# EAGLE library part SN74AVCAH164245 (library m-pad-2.1)
Ti's SN74AVCAH164245 16-BIT DUAL-SUPPLY BUS TRANSCEIVER WITH CONFIGURABLE VOLTAGE TRANSLATION AND 3-STATE OUTPUTS Description: This 16-bit (dual-octal) noninverting bus transceiver uses two separate configurable power-supply rails. The A-port is designed to track VCCA. VCCA accepts any supply voltage from 1.4 V to 3.6 V. The B-port is designed to track VCCB. VCCB accepts any supply voltage from 1.4 V to 3.6 V. This allows for universal low-voltage bidirectional translation between any of the 1.5-V, 1.8-V, 2.5-V, and 3.3-V voltage nodes. The SN74AVCAH164245 is designed for asynchronous communication between data buses. The device transmits data from the A bus to the B bus or from the B bus to the A bus, depending on the logic level at the direction-control (DIR) input. The output-enable (OE) input can be used to disable the outputs so the buses are effectively isolated. The SN74AVCAH164245 is designed so that the control pins (1DIR, 2DIR, 1OE, and 2OE) are supplied by VCCA. Active bus-hold circuitry is provided to hold unused or floating data inputs at a valid logic level. Use of pullup or pulldown resistors with the bus-hold circuitry is not recommended. To ensure the high-impedance state during power up or power down, OE should be tied to VCCA through a pullup resistor; the minimum value of the resistor is determined by the current-sinking capability of the driver. This device is fully specified for partial-power-down applications using Ioff. The Ioff circuitry disables the outputs, preventing damaging current backflow through the device when it is powered down. If either VCC input is at GND, then both ports are in the high-impedance state. Features: Member of the Texas Instruments Widebus Family DOC Circuitry Dynamically Changes Output Impedance, Resulting in Noise Reduction Without Speed Degradation Dynamic Drive Capability Is Equivalent to Standard Outputs With IOH and IOL of ±24 mA at 2.5-V VCC Control Inputs VIH/VIL Levels are Referenced to VCCA Voltage If Either VCC Input Is at GND, Both Ports Are in the High-Impedance State Overvoltage-Tolerant Inputs/Outputs Allow Mixed-Voltage-Mode Data Communications Ioff Supports Partial-Power-Down Mode Operation Fully Configurable Dual-Rail Design Allows Each Port to Operate Over the Full 1.4-V to 3.6-V Power-Supply Range Bus Hold on Data Inputs Eliminates the Need for External Pullup/Pulldown Resistors Latch-Up Performance Exceeds 100 mA Per JESD 78, Class II ESD Protection Exceeds JESD 22 - 2000-V Human-Body Model (A114-A) - 200-V Machine Model (A115-A) - 1000-V Charged-Device Model (C101) Please send any comments to: messi@users.sourceforge.net
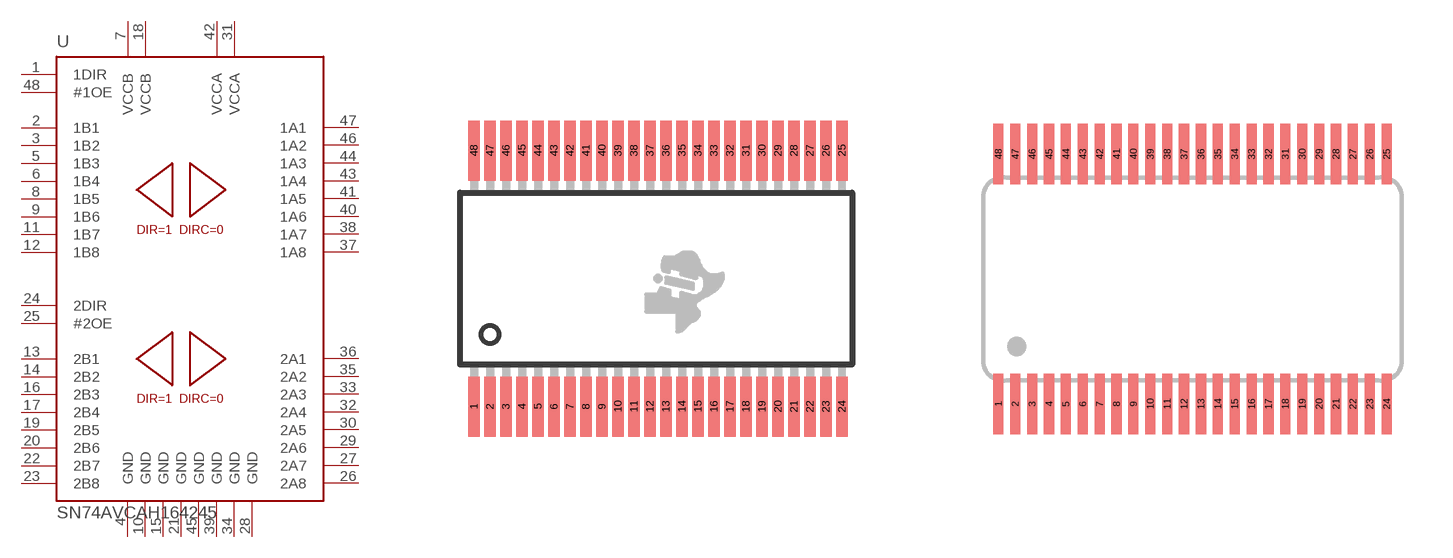
[diagram p74: symbol with the pads of TVSOP48; footprints TVSOP48, TSSOP-48]

Designator prefix U

## SN74AVCAH164245-DGV  [TVSOP48]
1  1DIR  in
2  1B1
3  1B2
4  GND  pwr
5  1B3
6  1B4
7  VCCB  pwr
8  1B5
9  1B6
10  GND  pwr
11  1B7
12  1B8
13  2B1
14  2B2
15  GND  pwr
16  2B3
17  2B4
18  VCCB  pwr
19  2B5
20  2B6
21  GND  pwr
22  2B7
23  2B8
24  2DIR  in
25  #2OE  in
26  2A8
27  2A7
28  GND  pwr
29  2A6
30  2A5
31  VCCA  pwr
32  2A4
33  2A3
34  GND  pwr
35  2A2
36  2A1
37  1A8
38  1A7
39  GND  pwr
40  1A6
41  1A5
42  VCCA  pwr
43  1A4
44  1A3
45  GND  pwr
46  1A2
47  1A1
48  #1OE  in

## SN74AVCAH164245-DGG  [TSSOP-48]
Pads as for TVSOP48

## SN74AVCAH164245-GQL  [VFBGA56]
A1  1DIR  in
A6  #1OE  in
B1  1B2
B2  1B1
B3  GND  pwr
B4  GND  pwr
B5  1A1
B6  1A2
C1  1B4
C2  1B3
C3  VCCB  pwr
C4  VCCA  pwr
C5  1A3
C6  1A4
D1  1B6
D2  1B5
D3  GND  pwr
D4  GND  pwr
D5  1A5
D6  1A6
E1  1B8
E2  1B7
E5  1A7
E6  1A8
F1  2B1
F2  2B2
F5  2A2
F6  2A1
G1  2B3
G2  2B4
G3  GND  pwr
G4  GND  pwr
G5  2A4
G6  2A3
H1  2B5
H2  2B6
H3  VCCB  pwr
H4  VCCA  pwr
H5  2A6
H6  2A5
J1  2B7
J2  2B8
J3  GND  pwr
J4  GND  pwr
J5  2A8
J6  2A7
K1  2DIR  in
K6  #2OE  in

## SN74AVCAH164245-ZQL  [VFBGA56]
Pads as for VFBGA56

## Footprint TVSOP48 (pad centres in mm)
Plastic Small Outline
smd 0.28 x 1.5: 1 -4.6,-3.2; 2 -4.2,-3.2; 3 -3.8,-3.2; 4 -3.4,-3.2; 5 -3,-3.2; 6 -2.6,-3.2; 7 -2.2,-3.2; 8 -1.8,-3.2; 9 -1.4,-3.2; 10 -1,-3.2; 11 -0.6,-3.2; 12 -0.2,-3.2; 13 0.2,-3.2; 14 0.6,-3.2; 15 1,-3.2; 16 1.4,-3.2; 17 1.8,-3.2; 18 2.2,-3.2; 19 2.6,-3.2; 20 3,-3.2; 21 3.4,-3.2; 22 3.8,-3.2; 23 4.2,-3.2; 24 4.6,-3.2; 25 4.6,3.2; 26 4.2,3.2; 27 3.8,3.2; 28 3.4,3.2; 29 3,3.2; 30 2.6,3.2; 31 2.2,3.2; 32 1.8,3.2; 33 1.4,3.2; 34 1,3.2; 35 0.6,3.2; 36 0.2,3.2; 37 -0.2,3.2; 38 -0.6,3.2; 39 -1,3.2; 40 -1.4,3.2; 41 -1.8,3.2; 42 -2.2,3.2; 43 -2.6,3.2; 44 -3,3.2; 45 -3.4,3.2; 46 -3.8,3.2; 47 -4.2,3.2; 48 -4.6,3.2

## Footprint TSSOP-48 (pad centres in mm)
smd 0.3 x 1.8: 1 -5.75,-3.7; 2 -5.25,-3.7; 3 -4.75,-3.7; 4 -4.25,-3.7; 5 -3.75,-3.7; 6 -3.25,-3.7; 7 -2.75,-3.7; 8 -2.25,-3.7; 9 -1.75,-3.7; 10 -1.25,-3.7; 11 -0.75,-3.7; 12 -0.25,-3.7; 13 0.25,-3.7; 14 0.75,-3.7; 15 1.25,-3.7; 16 1.75,-3.7; 17 2.25,-3.7; 18 2.75,-3.7; 19 3.25,-3.7; 20 3.75,-3.7; 21 4.25,-3.7; 22 4.75,-3.7; 23 5.25,-3.7; 24 5.75,-3.7; 25 5.75,3.7; 26 5.25,3.7; 27 4.75,3.7; 28 4.25,3.7; 29 3.75,3.7; 30 3.25,3.7; 31 2.75,3.7; 32 2.25,3.7; 33 1.75,3.7; 34 1.25,3.7; 35 0.75,3.7; 36 0.25,3.7; 37 -0.25,3.7; 38 -0.75,3.7; 39 -1.25,3.7; 40 -1.75,3.7; 41 -2.25,3.7; 42 -2.75,3.7; 43 -3.25,3.7; 44 -3.75,3.7; 45 -4.25,3.7; 46 -4.75,3.7; 47 -5.25,3.7; 48 -5.75,3.7

## Footprint VFBGA56 (pad centres in mm)
VFBGA56 from Ti (E.g. SN74AVCAH164245 )
smd 0.45 x 0.45: A1 1.625,-2.925; A2 0.975,-2.925; A3 0.325,-2.925; A4 -0.325,-2.925; A5 -0.975,-2.925; A6 -1.625,-2.925; B1 1.625,-2.275; B2 0.975,-2.275; B3 0.325,-2.275; B4 -0.325,-2.275; B5 -0.975,-2.275; B6 -1.625,-2.275; C1 1.625,-1.625; C2 0.975,-1.625; C3 0.325,-1.625; C4 -0.325,-1.625; C5 -0.975,-1.625; C6 -1.625,-1.625; D1 1.625,-0.975; D2 0.975,-0.975; D3 0.325,-0.975; D4 -0.325,-0.975; D5 -0.975,-0.975; D6 -1.625,-0.975; E1 1.625,-0.325; E2 0.975,-0.325; E5 -0.975,-0.325; E6 -1.625,-0.325; F1 1.625,0.325; F2 0.975,0.325; F5 -0.975,0.325; F6 -1.625,0.325; G1 1.625,0.975; G2 0.975,0.975; G3 0.325,0.975; G4 -0.325,0.975; G5 -0.975,0.975; G6 -1.625,0.975; H1 1.625,1.625; H2 0.975,1.625; H3 0.325,1.625; H4 -0.325,1.625; H5 -0.975,1.625; H6 -1.625,1.625; J1 1.625,2.275; J2 0.975,2.275; J3 0.325,2.275; J4 -0.325,2.275; J5 -0.975,2.275; J6 -1.625,2.275; K1 1.625,2.925; K2 0.975,2.925; K3 0.325,2.925; K4 -0.325,2.925; K5 -0.975,2.925; K6 -1.625,2.925